# Altium schematic symbol library modulo_extension_schlib.SchLib: 4 symbols
Pins are listed as number, name and electrical type; pins without a type are passive.

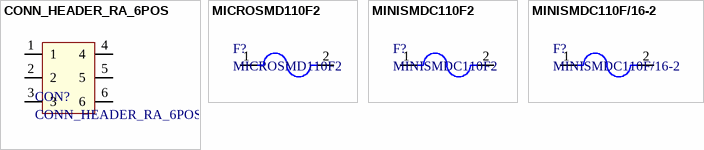
[diagram p0: symbols CONN_HEADER_RA_6POS to MINISMDC110F/16-2]

## CONN_HEADER_RA_6POS
designator CON?
Conector hembra de 6 posiciones molex; Manufacturer Part Number: 45732-0001; Voltage Rating: 600V; Current Rating: 8A; Gender: Male; Number of Contacts: 6; Pitch: 4.2mm; Contact Material: Brass; Contact Plating: Tin; Housing Material: Thermoplastic; Manufacturer: Molex; Max Operating Temperature: 105°C; Min Operating Temperature: -40°C; Mount: Through Hole; Number of Positions: 6; Number of Rows: 2; Orientation: Right Angle; Package Quantity: 300; Packaging: Tray; Radiation Hardening: No; Row Spacing: 4.2mm; Termination: Solder; Category: Headers and Wire Housings
footprint CONN_HEADER_RA_6POS
pins: 1, 2, 3, 4, 5, 6

## MICROSMD110F2
designator F?
POLYSWITCH / 1.10A 6Vmax RESET / FUSE SMD; Manufacturer: TE Connectivity; Manufacturer Part Number: MICROSMD110F-2; Approvals: UL,CSA,TUV; Body Material: Plastic; Current Rating: 40A; Hold Current: 1.1A; Max Power Dissipation: 800mW; Max Voltage Rating (DC): 6V; Resistance: 210mR; Tab Width: 0.25mm; Time to Trip: 0.2s; Trip Current: 2.2A; Case Code (Imperial): 1210; Case Code (Metric): 3225; Case/Package: 1210; Category: PTC Resettable Fuses; ELV: Compliant; Height: 0.48mm; Lead Free: Lead Free; Length: 3.43mm; Max Current Rating: 40A; Max Operating Temperature: 85°C; Min Operating Temperature: -40°C; Mount: Surface Mount; Number of Terminals: 2; Operating Supply Voltage: 6V; Package Quantity: 1; Packaging: Tape and Reel; Power Dissipation: 800mW; Radiation Hardening: No; REACH SVHC: Unknown; Termination: SMD/SMT; Voltage Rating: 6V; Voltage Rating (DC): 6V; Width: 2.8mm; Working Voltage: 6V
footprint MICROSMD110F2
pins: 1, 2

## MINISMDC110F2
designator F?
POLYSWITCH / 1.10A 8Vmax RESET / FUSE SMD; Manufacturer: Littelfuse; Manufacturer Part Number: MINISMDC110F-2; Voltage Rating (DC): 8V; Hold Current: 1.1A; Category: PTC Resettable Fuses; Lead Free: Lead Free; Length: 4.73mm; Max Operating Temperature: 85°C; Min Operating Temperature: -40°C; Operating Supply Voltage: 8V; REACH SVHC: Unknown
footprint MINISMDC110F2
pins: 1, 2

## MINISMDC110F/16-2
designator F?
Polymeric PTC Resettable Fuse 16V 1.1A Ih Surface Mount 1812 (4532 Metric), Concave; Manufacturer: Littelfuse; Manufacturer Part Number: RF1338-000; Max Current Rating: 100A; Time to Trip: 0.3s; Trip Current: 2.2A; Case Code (Imperial): 1812; Case Code (Metric): 4532; Category: PTC Resettable Fuses; Hold Current: 1.1A; Length: 0.181inch; Mount: Surface Mount; Packaging: Tape and Reel; Thickness: 0.019inch; Width: 0.128inch
footprint MINISMDC110F2
pins: 1, 2